# EAGLE library part 4416 (library memories)
DRAM 16K x 4 bits
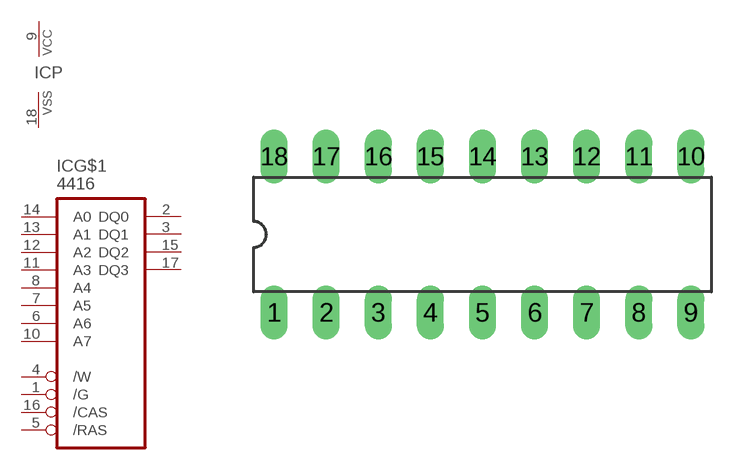
[diagram p7: symbol with the pads of DIL18; footprint DIL18]

Designator prefix IC; gates P=VCCVSS G$1=DRAM16KX4

## 4416  [DIL18]
1  G$1:/G  in
2  G$1:DQ0  out
3  G$1:DQ1  out
4  G$1:/W  in
5  G$1:/RAS  in
6  G$1:A6  in
7  G$1:A5  in
8  G$1:A4  in
9  P:VCC  pwr
10  G$1:A7  in
11  G$1:A3  in
12  G$1:A2  in
13  G$1:A1  in
14  G$1:A0  in
15  G$1:DQ2  out
16  G$1:/CAS  in
17  G$1:DQ3  out
18  P:VSS  pwr

## Footprint DIL18 (pad centres in mm)
Dual In Line
drill 0.813 long: 1 -10.16,-3.81; 2 -7.62,-3.81; 3 -5.08,-3.81; 4 -2.54,-3.81; 5 0,-3.81; 6 2.54,-3.81; 7 5.08,-3.81; 8 7.62,-3.81; 9 10.16,-3.81; 10 10.16,3.81; 11 7.62,3.81; 12 5.08,3.81; 13 2.54,3.81; 14 0,3.81; 15 -2.54,3.81; 16 -5.08,3.81; 17 -7.62,3.81; 18 -10.16,3.81